# Altium schematic symbol library TPS62130ARGTR.SchLib: 1 symbol
Pins are listed as number, name and electrical type; pins without a type are passive.

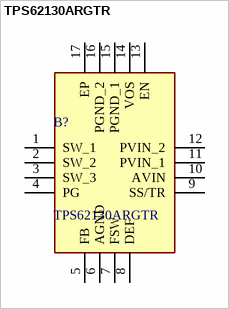
[diagram p0: symbol TPS62130ARGTR]

## TPS62130ARGTR
designator B?
3-V to 17-V, 3-A step-down converter with DCS-control in 3x3 QFN package; Manufacturer_Name: Texas Instruments; Geometry.Height: 1mm; Manufacturer_Part_Number: TPS62130ARGTR; Mouser Part Number: 595-TPS62130ARGTR; Mouser Price/Stock: https://www.mouser.co.uk/ProductDetail/Texas-Instruments/TPS62130ARGTR?qs=iIeLWXrA%252B1VxURRIvONmVg%3D%3D; Arrow Part Number: TPS62130ARGTR; Arrow Price/Stock: https://www.arrow.com/en/products/tps62130argtr/texas-instruments?utm_currency=USD&region=nac; Datasheet Link: http://www.ti.com/lit/gpn/tps62130a
footprint QFN50P300X300X100-17N-D
pins: 1 SW_1, 2 SW_2, 3 SW_3, 4 PG, 5 FB, 6 AGND, 7 FSW, 8 DEF, 9 SS/TR, 10 AVIN, 11 PVIN_1, 12 PVIN_2, 13 EN, 14 VOS, 15 PGND_1, 16 PGND_2, 17 EP